# EAGLE library part GROVE-CONNECTOR-SMD (library MakeItLabs)
320110030
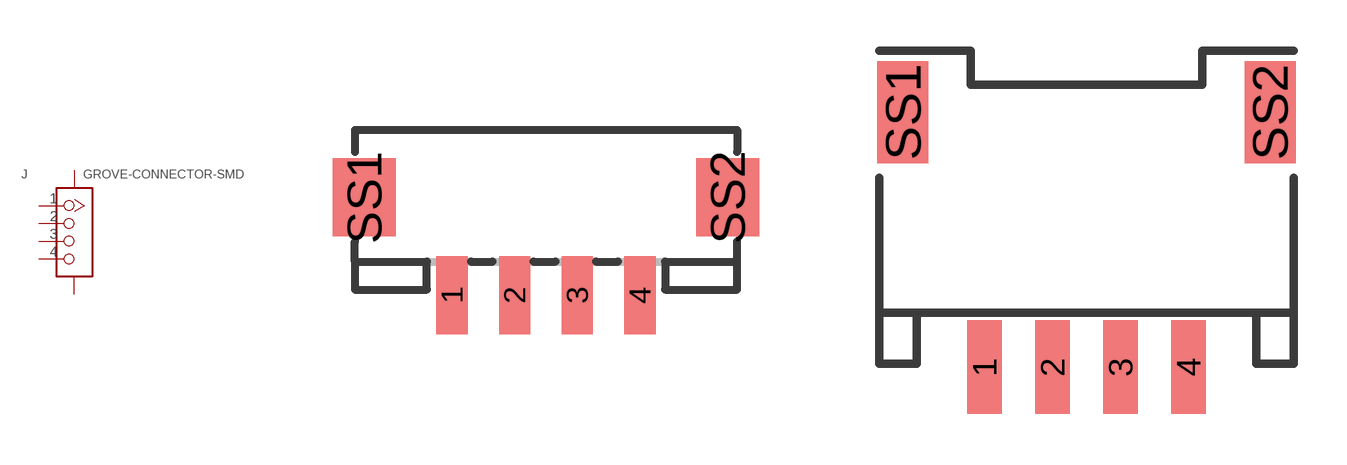
[diagram p11: symbol with the pads of HW4-SMD-2.0; footprints HW4-SMD-2.0, HW4-SMD-2.0-90D]

Designator prefix J

## GROVE-CONNECTOR-SMD-VERT (VALUE: H4P-SMD-2.0)  [HW4-SMD-2.0]
1  1
2  2
3  3
4  4
SS1  SS1
SS2  SS2

## GROVE-CONNECTOR-SMD-RA  [HW4-SMD-2.0-90D]
Pads as for HW4-SMD-2.0

## Footprint HW4-SMD-2.0 (pad centres in mm)
smd 1 x 2.5: 1 -3,0; 2 -1,0; 3 1,0; 4 3,0
smd 2 x 2.5: SS1 -5.8,3.123; SS2 5.8,3.123

## Footprint HW4-SMD-2.0-90D (pad centres in mm)
smd 1.01 x 2.74: 1 -3,-0.1; 2 -1,-0.1; 3 1,-0.1; 4 3,-0.1
smd 1.5 x 3: SS1 -5.4,7.4; SS2 5.4,7.4